# Altium footprint library CC254x.PcbLib: 18 footprints (part 2 of 2)
Each footprint in its own frame and in the unit in brackets; x right, y up, seen from the top. Pads: shape width x height; smd on the part's side, far side on the other; paste and mask are expansions set on the pad; w line width, h text height; cw(c..) or ccw(c..) is an arc to the next point about the centre after c.
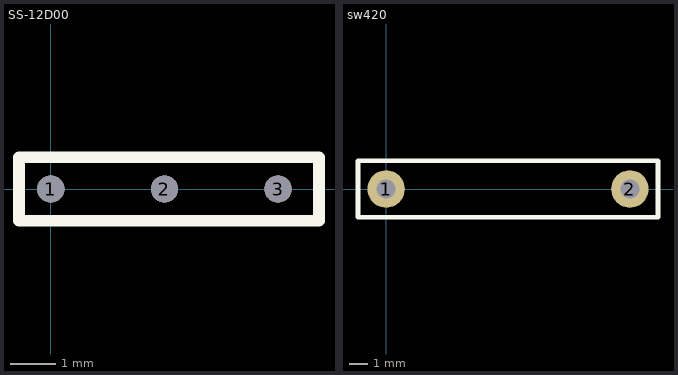
[diagram p1: the footprints below, top view; thin cyan lines are the x and y axes]

## SS-12D00 [mm] "SS-12D00(1P2T) 立式 柄高5MM"
pads (3):
  round 0.6 hole 0.6: 1(0,0) 2(2.5,0) 3(5,0)
Top Overlay:
  lines w0.254: -0.7,-0.7 5.9,-0.7 5.9,0.7 -0.7,0.7 -0.7,-0.7
  text "I" at 2.8,-0.1 h0.55
Bottom Overlay:
  text "UP" at 5.5,-1.65 h0.55
  text "OFF" at 0.15,-1.95 h0.55

## sw420 [mm] "常闭型 振动开关SW-420 高灵敏震动开关2708全方位感应传感器"
height 0.254
pads (2):
  round 2 hole 1: 1(0,0) 2(13,0)
Top Overlay:
  lines w0.25: -1.5,-1.5 14.5,-1.5 14.5,1.5 -1.5,1.5 -1.5,-1 -1.5,-1.5